# EAGLE library part HEADER-2X03 (library Header and Connector)
Header - 2X03
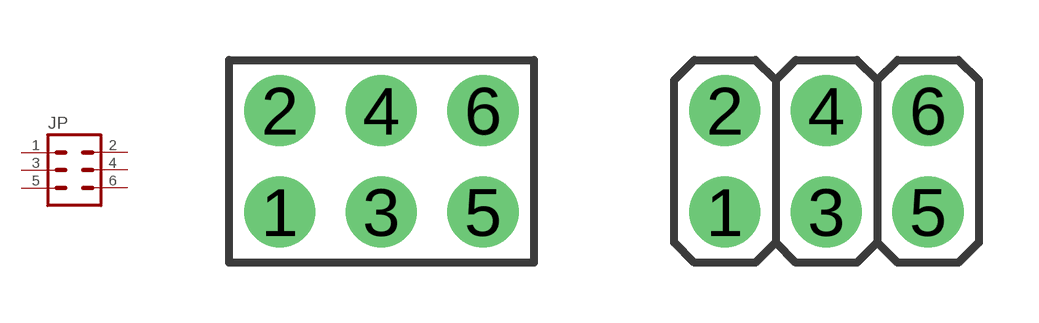
[diagram p8: symbol with the pads of HDR-F2X03; footprints HDR-F2X03, HDR-M2X03]

Designator prefix JP

## HEADER-2X03_(FEMALE) (CYTRON-PC: CN-PH-F240S; DESC: Female Header - 2x40 Ways; VALUE: 3/40 Ways)  [HDR-F2X03]
1  1  pas
2  2  pas
3  3  pas
4  4  pas
5  5  pas
6  6  pas

## HEADER-2X03_(MALE) (CYTRON-PC: CN-PH-M240S; DESC: Male Header - 2x40 Ways; VALUE: 3/40 Ways)  [HDR-M2X03]
Pads as for HDR-F2X03

## HEADER-2X03_(MALE_SMD) (DESC: SMD Male Header - 2x3; VALUE: 3 Ways)  [HDR-M2X03-SMD]
Pads as for HDR-F2X03

## HEADER-2X03_(S-HDR-M2X03) (CYTRON-PC: S-CN-PH-M203S; DESC: S Straight Male Header 2x3 Ways; VALUE: 2x3 Ways)  [S-HDR-M2X03]
Pads as for HDR-F2X03

## Footprint HDR-F2X03 (pad centres in mm)
Female Header - 2X03
drill 1.016 pad 1.778: 1 0,0; 2 0,2.54; 3 2.54,0; 4 2.54,2.54; 5 5.08,0; 6 5.08,2.54

## Footprint HDR-M2X03 (pad centres in mm)
Male Header - 2X03
drill 1.016 pad 1.778: 1 0,0; 2 0,2.54; 3 2.54,0; 4 2.54,2.54; 5 5.08,0; 6 5.08,2.54

## Footprint HDR-M2X03-SMD (pad centres in mm)
Male Header SMD - 2X03 Created by: Idris 31 May 2016
smd 1.02 x 3.17: 1 -2.54,-10; 2 -2.54,-3.67; 3 0,-10; 4 0,-3.67; 5 2.54,-10; 6 2.54,-3.67

## Footprint S-HDR-M2X03 (pad centres in mm)
SMD Male Header - 2X03
smd 1 x 3: 1 -3.81,-2.67; 2 -3.81,2.67; 3 -1.27,-2.67; 4 -1.27,2.67; 5 1.27,-2.67; 6 1.27,2.67